# Altium schematic symbol library Potentiometers.SchLib: 1 symbol
Pins are listed as number, name and electrical type; pins without a type are passive.

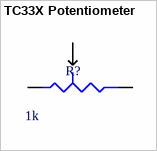
[diagram p0: symbol TC33X Potentiometer]

## TC33X Potentiometer
designator R?, comment value 1k  (hidden comment: Potentiometer)
Manufacturer Part No.: TC33X-2-201E; Digi-Key Part No.: TC33X-2-201ECT-ND
footprint TC33X-2 (TC33X-2 Trimpot)
pins: 1 A, 2 B, 3 TAP